# Altium schematic symbol library Additional.SchLib: 3 symbols
Pins are listed as number, name and electrical type; pins without a type are passive.

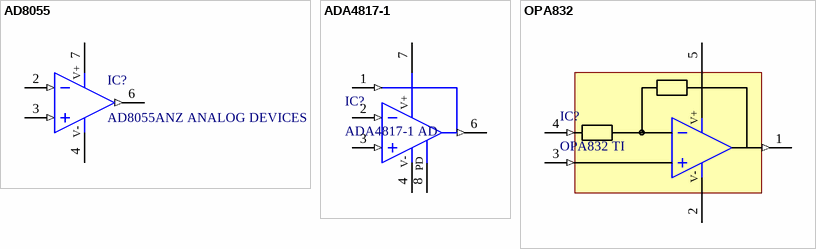
[diagram p0: symbols AD8055 to OPA832]

## AD8055
designator IC?, comment AD8055ANZ ANALOG DEVICES
Part Description: Low Cost, 300 MHz Voltage Feedback Amplifier; PressFit: No; Bonding: No; Part Number: AD8055ANZ; Component Kind: Standard; Component Type: Standard; Device: AD8055ANZ; Footprint: DIP8-300; PackageDescription: DIP 8 Leads, Row Spacing 7.62 mm; Pitch 2.54 mm; Manufacturer: ANALOG DEVICES; Manufacturer Part Number: AD8055ANZ; Pin Count: 7; Case: DIP8-300; Mounted: Yes; Socket: Yes; SMD: No; Sense: No; ComponentHeight: 5.33mm; Author: CERN DEM JLC; HelpURL: \\cern.ch\dfs\Applications\Altium\Datasheets\AD8055ANZ.pdf; CreateDate: 14.03.2011; LatestRevisionDate: 14.03.2011
footprint SOIC127P600X175-8N (SOIC 8, Pitch 1.27mm - Body 4x5mm, IPC Medium Density)
pins: 2 IN- (in), 3 IN+ (in), 4 V- (power), 6 OUT (out), 7 V+ (power)
1 alternate drawing of the same symbol

## ADA4817-1
designator IC?, comment ADA4817-1 AD
Name: ADA4817-1; Manufacturer: AD
footprint SOIC127P600X175-9N-S229 (SOIC 8, Pitch 1.27mm - Body 4x5mm, (w/thermal tab 2.29mm X 2.29mm), IPC Medium Density)
pins: 1 FB (in), 2 IN- (in), 3 IN+ (in), 4 V- (power), 6 OUT (out), 7 V+ (power), 8 PD (power), 9 GND (power) hidden

## OPA832
designator IC?, comment OPA832 TI
Name: OPA832; Manufacturer: TI
footprint SOT95P280X90-5N (SOT, 0.95mm Pitch; 5 Pin, 1.60mm W X 2.90mm L X 0.90mm H body, IPC Medium)
pins: 1 OUT (out), 2 V- (power), 3 IN+ (in), 4 V- (in), 5 V+ (power)